# EAGLE library part TFT-EPD-PANEL (library template)
4.4inch TFT EPD PANEL
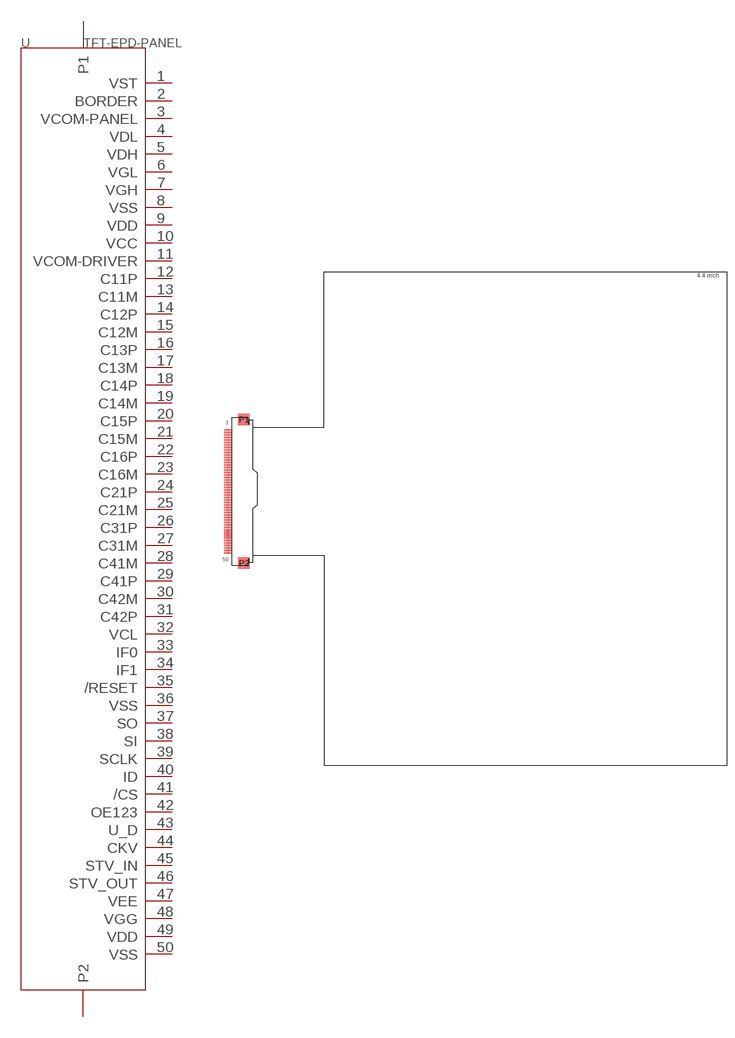
[diagram p42: symbol with the pads of 50P-0.5; footprint 50P-0.5]

Designator prefix U

## TFT-EPD-PANEL  [50P-0.5]
1  VST
2  BORDER
3  VCOM-PANEL
4  VDL
5  VDH
6  VGL
7  VGH
8  VSS
9  VDD
10  VCC
11  VCOM-DRIVER
12  C11P
13  C11M
14  C12P
15  C12M
16  C13P
17  C13M
18  C14P
19  C14M
20  C15P
21  C15M
22  C16P
23  C16M
24  C21P
25  C21M
26  C31P
27  C31M
28  C41M
29  C41P
30  C42M
31  C42P
32  VCL
33  IF0
34  IF1
35  /RESET
36  VSS
37  SO
38  SI
39  SCLK
40  ID
41  /CS
42  OE123
43  U_D
44  CKV
45  STV_IN
46  STV_OUT
47  VEE
48  VGG
49  VDD
50  VSS
P1  P1
P2  P2

## Footprint 50P-0.5 (pad centres in mm)
smd 1.524 x 0.305: 1 -0.762,12.25; 2 -0.762,11.75; 3 -0.762,11.25; 4 -0.762,10.75; 5 -0.762,10.25; 6 -0.762,9.75; 7 -0.762,9.25; 8 -0.762,8.75; 9 -0.762,8.25; 10 -0.762,7.75; 11 -0.762,7.25; 12 -0.762,6.75; 13 -0.762,6.25; 14 -0.762,5.75; 15 -0.762,5.25; 16 -0.762,4.75; 17 -0.762,4.25; 18 -0.762,3.75; 19 -0.762,3.25; 20 -0.762,2.75; 21 -0.762,2.25; 22 -0.762,1.75; 23 -0.762,1.25; 24 -0.762,0.75; 25 -0.762,0.25; 26 -0.762,-0.25; 27 -0.762,-0.75; 28 -0.762,-1.25; 29 -0.762,-1.75; 30 -0.762,-2.25; 31 -0.762,-2.75; 32 -0.762,-3.25; 33 -0.762,-3.75; 34 -0.762,-4.25; 35 -0.762,-4.75; 36 -0.762,-5.25; 37 -0.762,-5.75; 38 -0.762,-6.25; 39 -0.762,-6.75; 40 -0.762,-7.25; 41 -0.762,-7.75; 42 -0.762,-8.25; 43 -0.762,-8.75; 44 -0.762,-9.25; 45 -0.762,-9.75; 46 -0.762,-10.25; 47 -0.762,-10.75; 48 -0.762,-11.25; 49 -0.762,-11.75; 50 -0.762,-12.25
smd 2.286 x 2.286: P1 2.413,14.311; P2 2.413,-14.311